# Altium integrated library Altium_WRIS-PSMB (rev19a).IntLib: 5 symbols
Pins are listed as number, name and electrical type; pins without a type are passive.

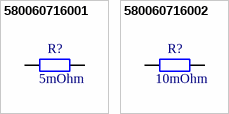
[diagram p0: symbols 580060716001 to 580060716002]

## 580060716001
designator R?, comment 5mOhm
WRIS-PSMB Metal Plate Resistors, size 0603, 5mOhm, +/-1%, 0.33W; Part Number: 580060716001; Rated Current: 8.12A; Temperature Coefficient of Resistance: +/-100ppm/degC; Technical Reference: MB0603R005F103KAATP0000; ComponentLink1Description: Manufacturer; ComponentLink1URL: http://www.we-online.de; ComponentLink2Description: Datasheet; ComponentLink2URL: https://katalog.we-online.com/pbs/datasheet/580060716001.pdf; Publisher: Wurth Elektronik; Rated Power: 0.33W; Resistance: 5mOhm; Mounting Technology: SMT; Height: 0.35mm; Packaging: Tape and Reel; Published Date: September 2019; Size: 0603; Length: 1.6mm; Operating Temperature: -55 to +155degC; Resistance Tolerance: +/-1%; Width: 0.8mm
footprint WRIS-PSMB_0603_H=0.35mm
pins: 1, 2

## 580060716002
designator R?, comment 10mOhm
WRIS-PSMB Metal Plate Resistors, size 0603, 10mOhm, +/-1%, 0.33W; Part Number: 580060716002; Rated Current: 5.74A; Temperature Coefficient of Resistance: +/-100ppm/degC; Technical Reference: MB0603R010F103KAATP0000; ComponentLink1Description: Manufacturer; ComponentLink1URL: http://www.we-online.de; ComponentLink2Description: Datasheet; ComponentLink2URL: https://katalog.we-online.com/pbs/datasheet/580060716002.pdf; Publisher: Wurth Elektronik; Rated Power: 0.33W; Resistance: 10mOhm; Mounting Technology: SMT; Height: 0.3mm; Packaging: Tape and Reel; Published Date: September 2019; Size: 0603; Length: 1.6mm; Operating Temperature: -55 to +155degC; Resistance Tolerance: +/-1%; Width: 0.8mm
footprint WRIS-PSMB_0603_H=0.3mm
pins: 1, 2


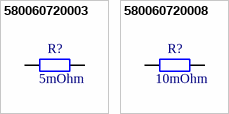
[diagram p1: symbols 580060720003 to 580060720008]

## 580060720003
designator R?, comment 5mOhm
WRIS-PSMB Metal Plate Resistors, size 0805, 5mOhm, +/-1%, 0.5W; Part Number: 580060720003; Rated Current: 10A; Temperature Coefficient of Resistance: +/-100ppm/degC; Technical Reference: MB0805R005F102KAATP0000; ComponentLink1Description: Manufacturer; ComponentLink1URL: http://www.we-online.de; ComponentLink2Description: Datasheet; ComponentLink2URL: https://katalog.we-online.com/pbs/datasheet/580060720003.pdf; Publisher: Wurth Elektronik; Rated Power: 0.5W; Resistance: 5mOhm; Mounting Technology: SMT; Height: 0.35mm; Packaging: Tape and Reel; Published Date: September 2019; Size: 0805; Length: 2mm; Operating Temperature: -55 to +155degC; Resistance Tolerance: +/-1%; Width: 1.25mm
footprint WRIS-PSMB_0805_H=0.35mm
pins: 1, 2

## 580060720008
designator R?, comment 10mOhm
WRIS-PSMB Metal Plate Resistors, size 0805, 10mOhm, +/-1%, 0.5W; Part Number: 580060720008; Rated Current: 7.07A; Temperature Coefficient of Resistance: +/-100ppm/degC; Technical Reference: MB0805R010F102KAATP0000; ComponentLink1Description: Manufacturer; ComponentLink1URL: http://www.we-online.de; ComponentLink2Description: Datasheet; ComponentLink2URL: https://katalog.we-online.com/pbs/datasheet/580060720008.pdf; Publisher: Wurth Elektronik; Rated Power: 0.5W; Resistance: 10mOhm; Mounting Technology: SMT; Height: 0.22mm; Packaging: Tape and Reel; Published Date: September 2019; Size: 0805; Length: 2mm; Operating Temperature: -55 to +155degC; Resistance Tolerance: +/-1%; Width: 1.25mm
footprint WRIS-PSMB_0805_H=0.22mm
pins: 1, 2


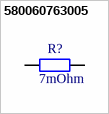
[diagram p2: symbol 580060763005]

## 580060763005
designator R?, comment 7mOhm
WRIS-PSMB Metal Plate Resistors, size 2512, 7mOhm, +/-1%, 1W; Part Number: 580060763005; Rated Current: 12A; Temperature Coefficient of Resistance: +/-100ppm/degC; Technical Reference: MB2512R007F101KAATE0000; ComponentLink1Description: Manufacturer; ComponentLink1URL: http://www.we-online.de; ComponentLink2Description: Datasheet; ComponentLink2URL: https://katalog.we-online.com/pbs/datasheet/580060763005.pdf; Publisher: Wurth Elektronik; Rated Power: 1W; Resistance: 7mOhm; Mounting Technology: SMT; Height: 0.35mm; Packaging: Tape and Reel; Published Date: September 2019; Size: 2512; Length: 6.3mm; Operating Temperature: -55 to +155degC; Resistance Tolerance: +/-1%; Width: 3.1mm
footprint WRIS-PSMB_2512_H=0.35mm
pins: 1, 2